# Altium footprint library HTSOP-J8.PcbLib: 1 footprints
Each footprint in its own frame and in the unit in brackets; x right, y up, seen from the top. Pads: shape width x height; smd on the part's side, far side on the other; paste and mask are expansions set on the pad; w line width, h text height; cw(c..) or ccw(c..) is an arc to the next point about the centre after c.
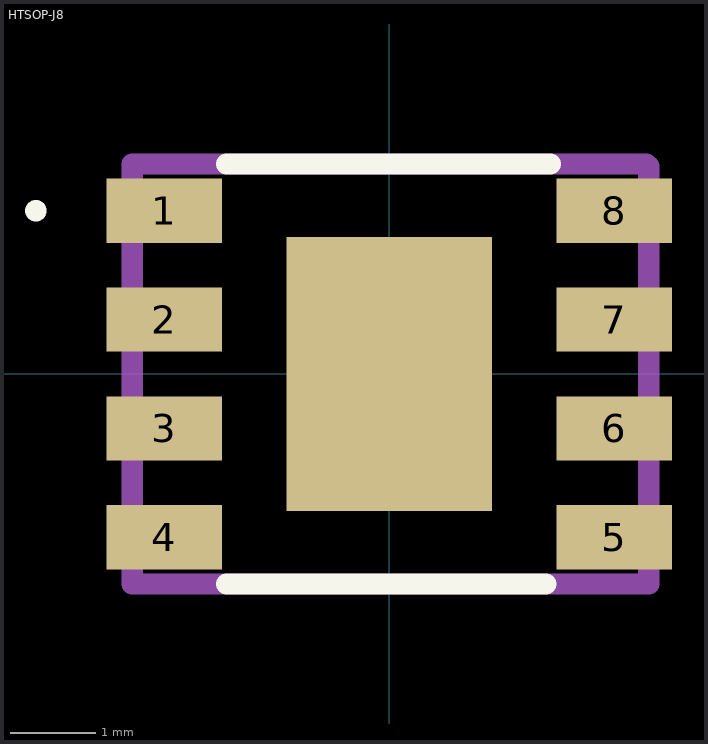
[diagram p0: the footprint, top view; thin cyan lines are the x and y axes]

## HTSOP-J8 [mm]
pads (9):
  rect 1.35x0.75 smd mask+0.051: 1(-2.625,1.905) 2(-2.625,0.635) 3(-2.625,-0.635) 4(-2.625,-1.905) 5(2.625,-1.905) 6(2.625,-0.635) 7(2.625,0.635) 8(2.625,1.905)
  rect 2.4x3.2 smd mask+0.051: ""(0,0)
Top Overlay:
  circle w0.254: c-4.125,1.905 r0
  lines w0.25: -1.9,-2.45 1.825,-2.45 ; -1.9,2.45 1.875,2.45
Mechanical 13:
  lines w0.25: -3,-2.45 3.025,-2.45 3.025,2.425 3,2.45 -3,2.45 -3,-2.45
Mechanical 15:
  lines w0.25: 0,0 0,0.5 0,0 ; 0,0 0.5,0 0,0 ; 0,0 0,-0.5 0,0 ; 0,0 -0.5,0 0,0
3D body "HTSOP-J8.STEP": height 1.09, standoff 0.01, extent -3.012,-2.45 3.012,2.45